# Altium footprint library 接口.PCBLIB: 266 footprints (part 2 of 17)
Each footprint in its own frame and in the unit in brackets; x right, y up, seen from the top. Pads: shape width x height; smd on the part's side, far side on the other; paste and mask are expansions set on the pad; w line width, h text height; cw(c..) or ccw(c..) is an arc to the next point about the centre after c.
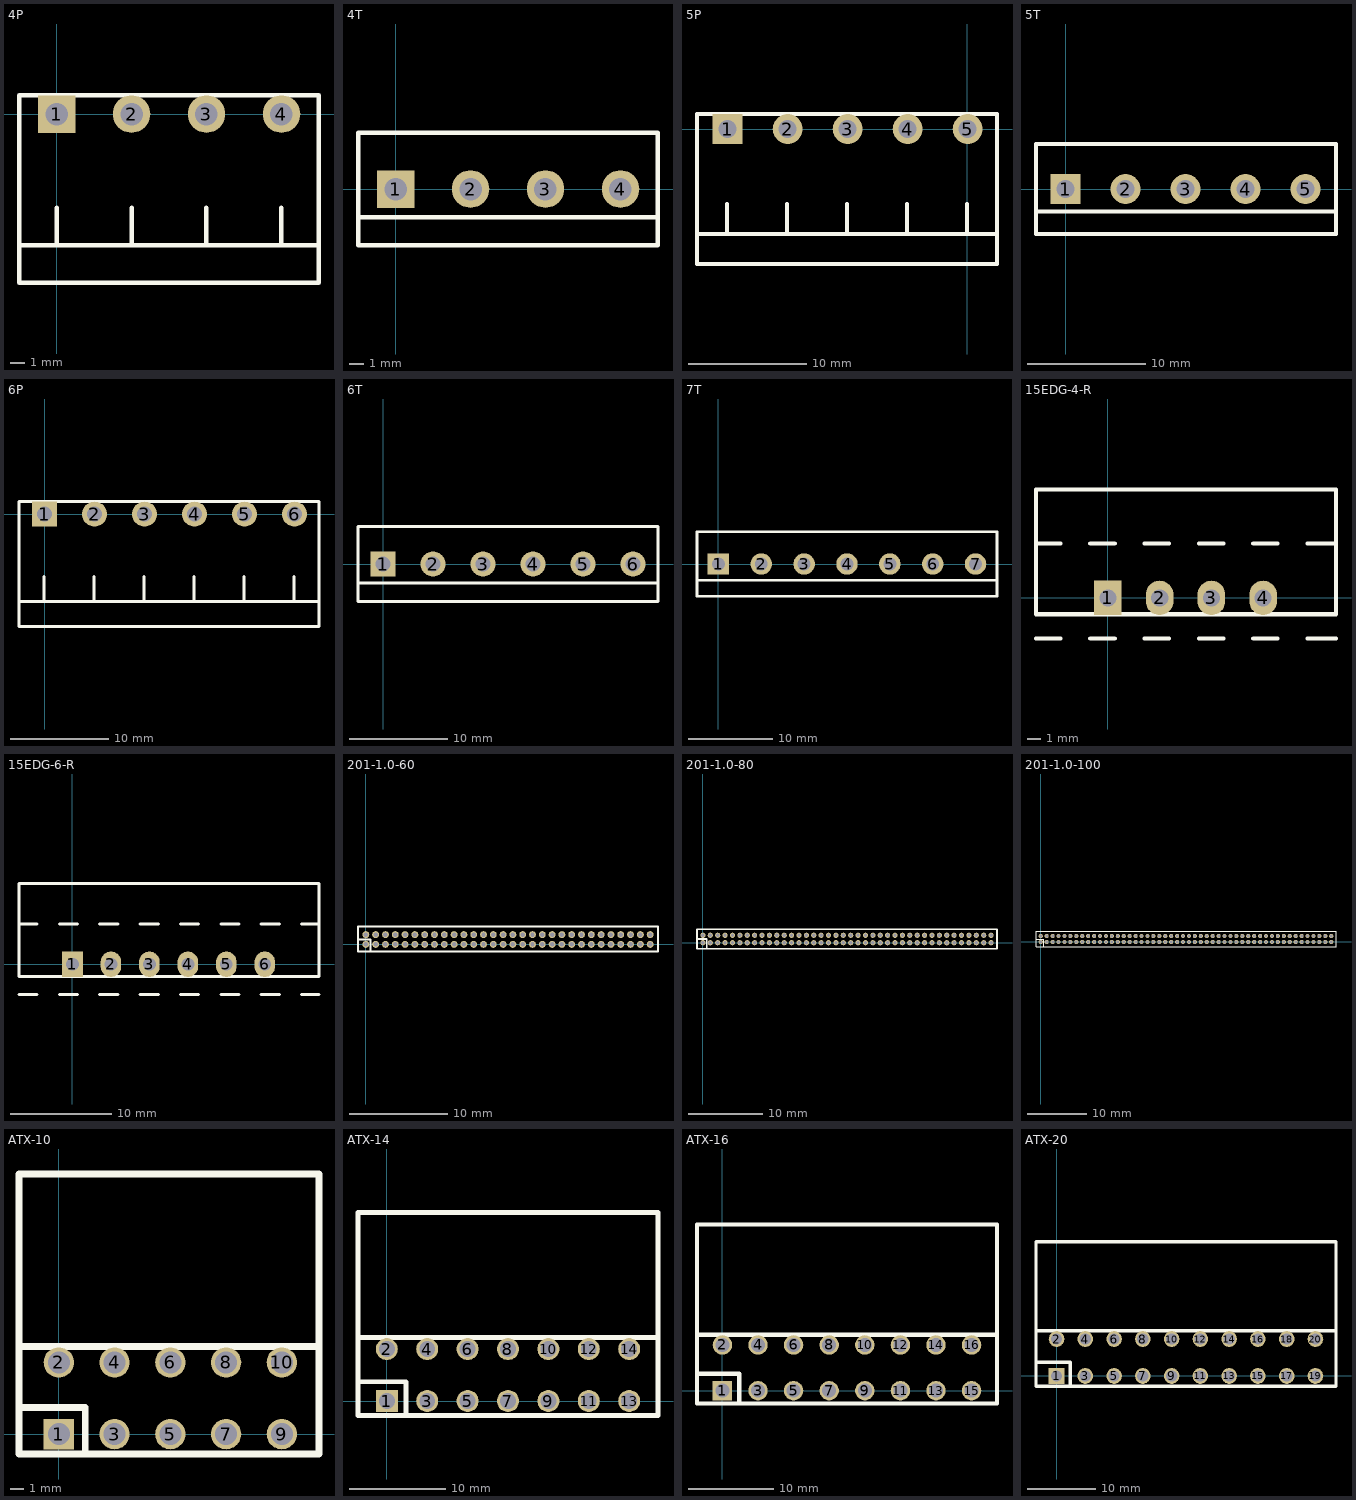
[diagram p1: the footprints below, top view; thin cyan lines are the x and y axes]

## 4P [mil]
pads (4):
  rect 100x100 hole 60: 1(0,0)
  round 100 hole 60: 2(200,0) 3(400,0) 4(600,0)
TopOverlay:
  lines w12: -100,-350 700,-350 ; 0,-350 0,-250 ; 200,-350 200,-250 ; 400,-350 400,-250 ; 600,-350 600,-250 ; -100,-450 700,-450 700,50 -100,50 -100,-450

## 4T [mil]
pads (4):
  rect 100x100 hole 60: 1(0,0)
  round 100 hole 60: 2(200,0) 3(400,0) 4(600,0)
TopOverlay:
  lines w12: -100,-75 700,-75 ; -100,-150 700,-150 700,150 -100,150 -100,-150

## 5P [mil]
pads (5):
  rect 100x100 hole 60: 1(-797.64,0)
  round 100 hole 60: 2(-597.64,0) 3(-397.64,0) 4(-197.64,0) 5(2.36,0)
TopOverlay:
  lines w12: -900,-350 100,-350 ; -800,-350 -800,-250 ; -600,-350 -600,-250 ; -400,-350 -400,-250 ; -200,-350 -200,-250 ; 0,-350 0,-250 ; -900,-450 100,-450 100,50 -900,50 -900,-450

## 5T [mil]
pads (5):
  rect 100x100 hole 60: 1(0,0)
  round 100 hole 60: 2(200,0) 3(400,0) 4(600,0) 5(800,0)
TopOverlay:
  lines w12: -98.42,-75 901.58,-75 ; -98.42,-150 -98.42,150 501.57,150 901.58,150 901.58,-150 -98.42,-150

## 6P [mil]
pads (6):
  rect 100x100 hole 60: 1(0,0)
  round 100 hole 60: 2(200,0) 3(400,0) 4(600,0) 5(800,0) 6(1000,0)
TopOverlay:
  lines w12: -102.36,-350 1096.85,-350.39 ; -2.36,-350 -2.36,-250 ; 197.64,-350 197.64,-250 ; 397.64,-350 397.64,-250 ; 597.64,-350 597.64,-250 ; 797.64,-350 797.64,-250 ; 997.64,-350 997.64,-250 ; 1096.85,-448.82 -102.36,-450 -102.36,50 1096.85,51.18 ; 1097.64,-450 1097.64,50

## 6T [mil]
pads (6):
  rect 100x100 hole 60: 1(0,0)
  round 100 hole 60: 2(200,0) 3(400,0) 4(600,0) 5(800,0) 6(1000,0)
TopOverlay:
  lines w12: -100,-75 1100,-75 ; -100,-150 1100,-150 1100,150 -100,150 -100,-150

## 7T [mil]
pads (7):
  rect 100x100 hole 60: 1(0,0)
  round 100 hole 60: 2(200,0) 3(400,0) 4(600,0) 5(800,0) 6(1000,0) 7(1200,0)
TopOverlay:
  lines w12: -100,-75 1300,-75 ; -100,-150 -100,150 1300,150 1300,-150 -100,-150

## 15EDG-4-R [mil]
height 275.59
pads (4):
  rect 80x100 hole 50: 1(0,0)
  oval 80x100 hole 50: 2(150,0) 3(300,0) 4(450,0)
TopOverlay:
  lines w12.01: -208.66,-118.11 -137.8,-118.11 ; -208.66,157.48 -137.8,157.48 ; -51.18,-118.11 19.68,-118.11 ; -51.18,157.48 19.68,157.48 ; 106.3,-118.11 177.17,-118.11 ; 106.3,157.48 177.17,157.48 ; 263.78,-118.11 334.65,-118.11 ; 263.78,157.48 334.65,157.48 ; 421.26,-118.11 492.13,-118.11 ; 421.26,157.48 492.13,157.48 ; 578.74,-118.11 661.42,-118.11 ; 578.74,157.48 661.42,157.48 ; -208.66,-47.24 661.42,-47.24 661.42,314.96 -208.66,314.96 -208.66,-47.24

## 15EDG-6-R [mil]
height 275.59
pads (6):
  rect 80x100 hole 50: 1(0,0)
  oval 80x100 hole 50: 2(150,0) 3(300,0) 4(450,0) 5(600,0) 6(750,0)
TopOverlay:
  lines w12.01: -208.66,-118.11 -137.8,-118.11 ; -208.66,157.48 -137.8,157.48 ; -51.18,-118.11 19.68,-118.11 ; -51.18,157.48 19.68,157.48 ; 106.3,-118.11 177.17,-118.11 ; 106.3,157.48 177.17,157.48 ; 263.78,-118.11 334.65,-118.11 ; 263.78,157.48 334.65,157.48 ; 421.26,-118.11 492.13,-118.11 ; 421.26,157.48 492.13,157.48 ; 578.74,-118.11 649.61,-118.11 ; 578.74,157.48 649.61,157.48 ; 736.22,-118.11 807.09,-118.11 ; 736.22,157.48 807.09,157.48 ; 893.7,-118.11 961.42,-118.11 ; 893.7,157.48 961.42,157.48 ; -208.66,-47.24 961.42,-47.24 961.42,314.96 -208.66,314.96 -208.66,-47.24

## 201-1.0-60 [mm]
pads (60):
  round 0.7 hole 0.45: 1(0,0) 2(0,1) 3(1,0) 4(1,1) 5(2,0) 6(2,1) 7(3,0) 8(3,1) 9(4,0) 10(4,1) 11(5,0) 12(5,1) 13(6,0) 14(6,1) 15(7,0) 16(7,1) 17(8,0) 18(8,1) 19(9,0) 20(9,1) 21(10,0) 22(10,1) 23(11,0) 24(11,1) 25(12,0) 26(12,1) 27(13,0) 28(13,1) 29(14,0) 30(14,1) 31(15,0) 32(15,1) 33(16,0) 34(16,1) 35(17,0) 36(17,1) 37(18,0) 38(18,1) 39(19,0) 40(19,1) 41(20,0) 42(20,1) 43(21,0) 44(21,1) 45(22,0) 46(22,1) 47(23,0) 48(23,1) 49(24,0) 50(24,1) 51(25,0) 52(25,1) 53(26,0) 54(26,1) 55(27,0) 56(27,1) 57(28,0) 58(28,1) 59(29,0) 60(29,1)
TopOverlay:
  lines w0.203: -0.8,0.5 0.5,0.5 0.5,-0.7 ; -0.8,-0.7 -0.8,1.8 29.8,1.8 29.8,-0.7 -0.8,-0.7

## 201-1.0-80 [mm]
pads (80):
  round 0.7 hole 0.45: 1(0,0) 2(0,1) 3(1,0) 4(1,1) 5(2,0) 6(2,1) 7(3,0) 8(3,1) 9(4,0) 10(4,1) 11(5,0) 12(5,1) 13(6,0) 14(6,1) 15(7,0) 16(7,1) 17(8,0) 18(8,1) 19(9,0) 20(9,1) 21(10,0) 22(10,1) 23(11,0) 24(11,1) 25(12,0) 26(12,1) 27(13,0) 28(13,1) 29(14,0) 30(14,1) 31(15,0) 32(15,1) 33(16,0) 34(16,1) 35(17,0) 36(17,1) 37(18,0) 38(18,1) 39(19,0) 40(19,1) 41(20,0) 42(20,1) 43(21,0) 44(21,1) 45(22,0) 46(22,1) 47(23,0) 48(23,1) 49(24,0) 50(24,1) 51(25,0) 52(25,1) 53(26,0) 54(26,1) 55(27,0) 56(27,1) 57(28,0) 58(28,1) 59(29,0) 60(29,1) 61(30,0) 62(30,1) 63(31,0) 64(31,1) 65(32,0) 66(32,1) 67(33,0) 68(33,1) 69(34,0) 70(34,1) 71(35,0) 72(35,1) 73(36,0) 74(36,1) 75(37,0) 76(37,1) 77(38,0) 78(38,1) 79(39,0) 80(39,1)
TopOverlay:
  lines w0.203: -0.8,0.5 0.5,0.5 0.5,-0.7 ; -0.8,-0.8 -0.8,1.8 39.8,1.8 39.8,-0.8 -0.8,-0.8

## 201-1.0-100 [mm]
pads (102):
  round 0.7 hole 0.45: 1(0,0) 2(0,1) 3(1,0) 4(1,1) 5(2,0) 6(2,1) 7(3,0) 8(3,1) 9(4,0) 10(4,1) 11(5,0) 12(5,1) 13(6,0) 14(6,1) 15(7,0) 16(7,1) 17(8,0) 18(8,1) 19(9,0) 20(9,1) 21(10,0) 22(10,1) 23(11,0) 24(11,1) 25(12,0) 26(12,1) 27(13,0) 28(13,1) 29(14,0) 30(14,1) 31(15,0) 32(15,1) 33(16,0) 34(16,1) 35(17,0) 36(17,1) 37(18,0) 38(18,1) 39(19,0) 40(19,1) 41(20,0) 42(20,1) 43(21,0) 44(21,1) 45(22,0) 46(22,1) 47(23,0) 48(23,1) 49(24,0) 50(24,1) 51(25,0) 52(25,1) 53(26,0) 54(26,1) 55(27,0) 56(27,1) 57(28,0) 58(28,1) 59(29,0) 60(29,1) 61(30,0) 62(30,1) 63(31,0) 64(31,1) 65(32,0) 66(32,1) 67(33,0) 68(33,1) 69(34,0) 70(34,1) 71(35,0) 72(35,1) 73(36,0) 74(36,1) 75(37,0) 76(37,1) 77(38,0) 78(38,1) 79(39,0) 80(39,1) 81(40,0) 82(40,1) 83(41,0) 84(41,1) 85(42,0) 86(42,1) 87(43,0) 88(43,1) 89(44,0) 90(44,1) 91(45,0) 92(45,1) 93(46,0) 94(46,1) 95(47,0) 95(47,0) 96(47,1) 96(47,1) 97(48,0) 98(48,1) 99(49,0) 100(49,1)
TopOverlay:
  lines w0.203: -0.8,0.5 0.5,0.5 0.5,-0.7 ; -0.8,-0.8 49.8,-0.8 49.8,1.8 -0.8,1.8 -0.8,-0.8

## ATX-10 [mil]
pads (10):
  rect 90x90 hole 65: 1(0,0)
  round 90 hole 65: 2(0,212.6) 3(165.35,0) 4(165.35,212.6) 5(330.71,0) 6(330.71,212.6) 7(496.06,0) 8(496.06,212.6) 9(661.42,0) 10(661.42,212.6)
TopOverlay:
  lines w20: -118.11,78.74 78.74,78.74 78.74,-59.06 ; -118.11,259.84 771.65,259.84 ; -118.11,-59.06 -118.11,771.65 771.65,771.65 771.65,-59.06 -118.11,-59.06

## ATX-14 [mil]
pads (14):
  rect 90x90 hole 65: 1(0,0)
  round 90 hole 65: 2(0,212.6) 3(165.35,0) 4(165.35,212.6) 5(330.71,0) 6(330.71,212.6) 7(496.06,0) 8(496.06,212.6) 9(661.42,0) 10(661.42,212.6) 11(826.77,0) 12(826.77,212.6) 13(992.13,0) 14(992.13,212.6)
TopOverlay:
  lines w20: -118.11,78.74 78.74,78.74 78.74,-59.06 ; -118.11,259.84 1110.24,259.84 ; -118.11,-59.06 1110.24,-59.06 1110.24,771.65 -118.11,771.65 -118.11,-59.06

## ATX-16 [mil]
pads (16):
  rect 90x90 hole 65: 1(0,0)
  round 90 hole 65: 2(0,212.6) 3(165.35,0) 4(165.35,212.6) 5(330.71,0) 6(330.71,212.6) 7(496.06,0) 8(496.06,212.6) 9(661.42,0) 10(661.42,212.6) 11(826.77,0) 12(826.77,212.6) 13(992.13,0) 14(992.13,212.6) 15(1157.48,0) 16(1157.48,212.6)
TopOverlay:
  lines w20: -118.11,78.74 78.74,78.74 78.74,-59.06 ; -118.11,259.84 1275.59,259.84 ; -118.11,-59.06 1275.59,-59.06 1275.59,771.65 -118.11,771.65 -118.11,-59.06

## ATX-20 [mil]
pads (20):
  rect 90x90 hole 65: 1(0,0)
  round 90 hole 65: 2(0,212.6) 3(165.35,0) 4(165.35,212.6) 5(330.71,0) 6(330.71,212.6) 7(496.06,0) 8(496.06,212.6) 9(661.42,0) 10(661.42,212.6) 11(826.77,0) 12(826.77,212.6) 13(992.13,0) 14(992.13,212.6) 15(1157.48,0) 16(1157.48,212.6) 17(1322.83,0) 18(1322.83,212.6) 19(1488.19,0) 20(1488.19,212.6)
TopOverlay:
  lines w20: -118.11,78.74 78.74,78.74 78.74,-59.06 ; -118.11,259.84 1606.3,259.84 ; -118.11,-59.06 1606.3,-59.06 1606.3,771.65 -118.11,771.65 -118.11,-59.06